# Altium footprint library opm_lib.PcbLib: 32 footprints (part 1 of 2)
Each footprint in its own frame and in the unit in brackets; x right, y up, seen from the top. Pads: shape width x height; smd on the part's side, far side on the other; paste and mask are expansions set on the pad; w line width, h text height; cw(c..) or ccw(c..) is an arc to the next point about the centre after c.
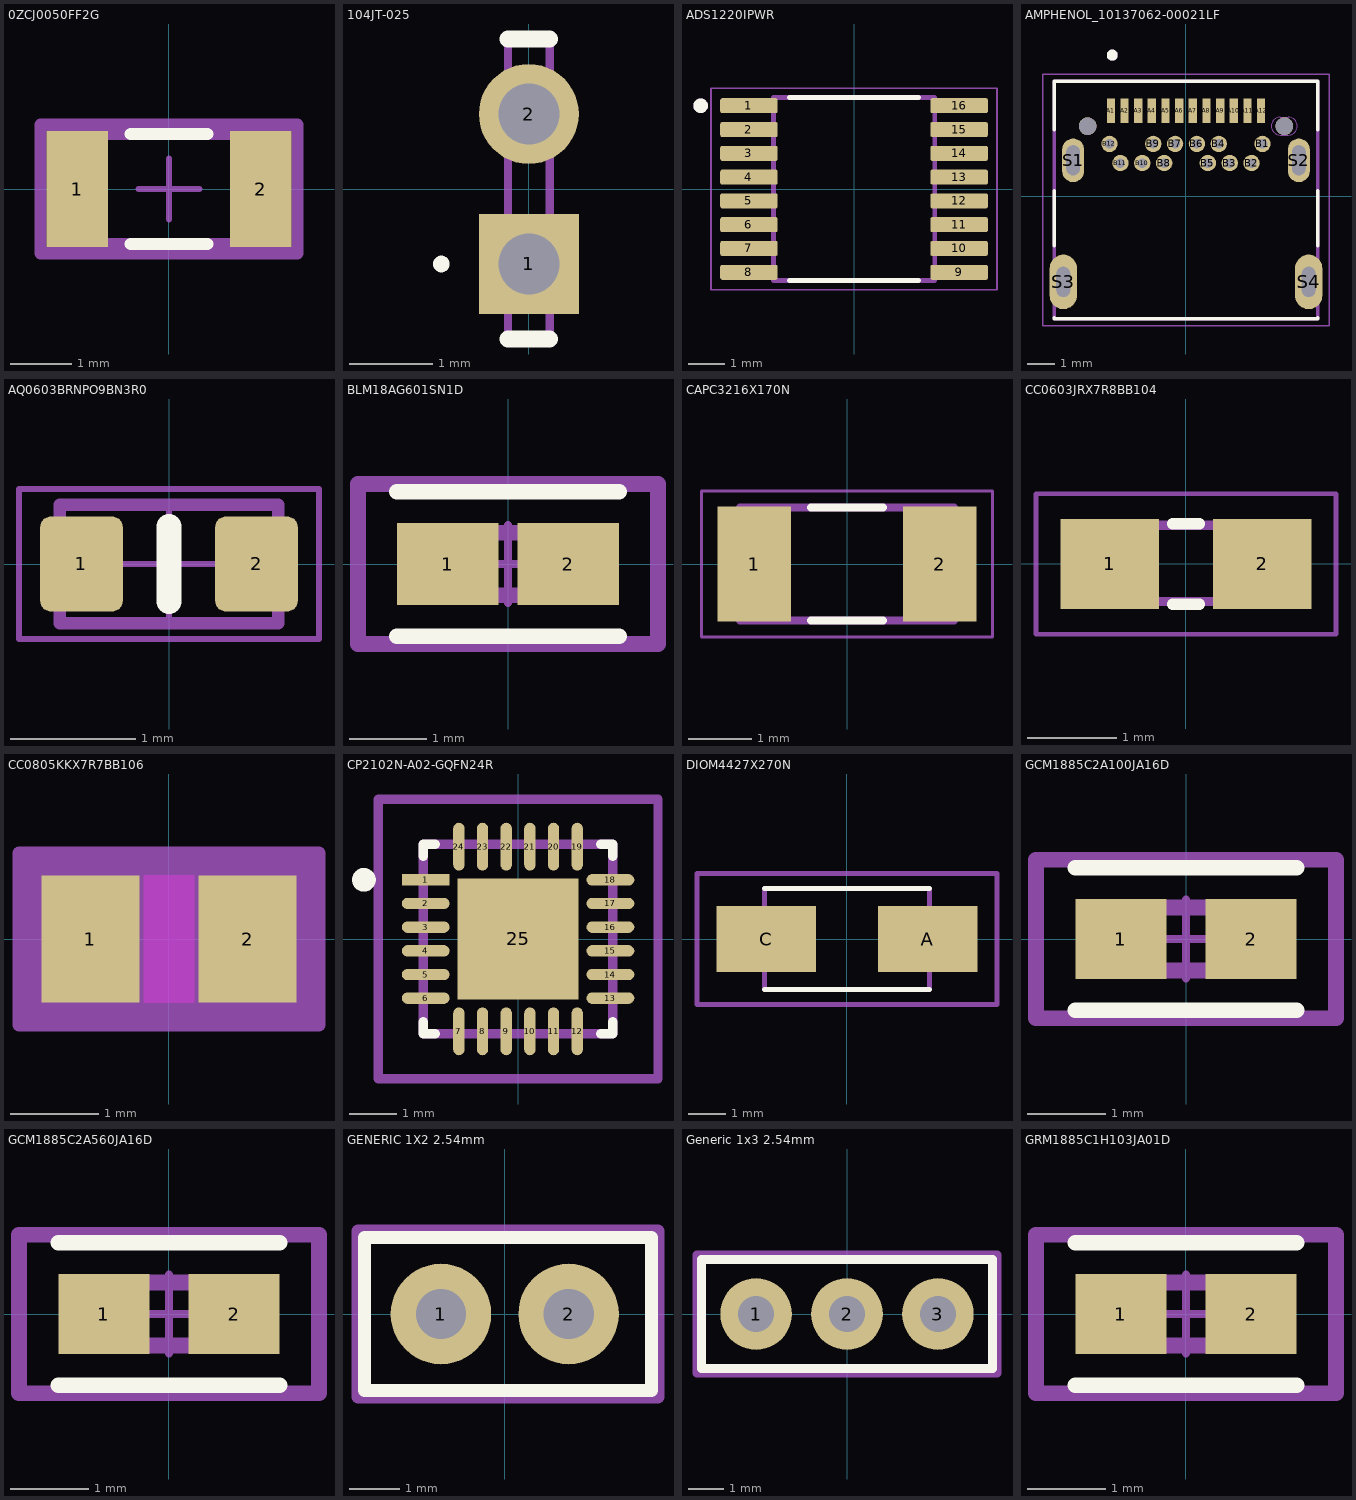
[diagram p0: the footprints below, top view; thin cyan lines are the x and y axes]

## 0ZCJ0050FF2G [mm]
pads (2):
  rect 1x1.9 smd paste+0 mask+0: 1(-1.5,0) 2(1.5,0)
Top Overlay:
  lines w0.2: -0.625,-0.9 0.625,-0.9 ; -0.625,0.9 0.625,0.9
Top 3D Body:
  lines w0.2: -1.75,-0.9 -1.75,0.9 1.75,0.9 1.75,-0.9 -1.75,-0.9
Board:
  lines w0.2: -2.1,-1.05 -2.1,1.05 2.1,1.05 2.1,-1.05 -2.1,-1.05
Top Assembly:
  lines w0.2: -2.1,-1.05 -2.1,1.05 2.1,1.05 2.1,-1.05 -2.1,-1.05
  text ".Designator" at 0,0.188 h1
Top Component Center:
  lines w0.1: -0.5,0 0.5,0 ; 0,-0.5 0,0.5
3D body "Fuse_Bel_Fuse_0ZCJ0050FF2G_eec.STEP": height 0.25, standoff 0, extent -2.1,-1.05 2.1,1.05

## 104JT-025 [mm]
pads (2):
  rect 1.2x1.2 hole 0.73: 1(0,-0.9)
  round 1.2 hole 0.73: 2(0,0.9)
Top Overlay:
  lines w0.1: -1.1,-0.9 cw(c-1.05,-0.9) -1,-0.9 cw(c-1.05,-0.9) -1.1,-0.9
  lines w0.2: -0.25,-1.8 0.25,-1.8 ; -0.25,1.8 0.25,1.8
Mechanical 15:
  lines w0.1: -0.25,-1.8 0.25,-1.8 0.25,1.8 -0.25,1.8 -0.25,-1.8

## ADS1220IPWR [mm]
pads (16):
  rrect25% 1.57x0.41 smd: 1(-2.87,2.275) 2(-2.87,1.625) 3(-2.87,0.975) 4(-2.87,0.325) 5(-2.87,-0.325) 6(-2.87,-0.975) 7(-2.87,-1.625) 8(-2.87,-2.275) 9(2.87,-2.275) 10(2.87,-1.625) 11(2.87,-0.975) 12(2.87,-0.325) 13(2.87,0.325) 14(2.87,0.975) 15(2.87,1.625) 16(2.87,2.275)
Top Overlay:
  circle w0.2: c-4.19,2.275 r0.1
  lines w0.127: -1.765,-2.5 1.765,-2.5 ; -1.765,2.5 1.765,2.5
Mechanical 13:
  circle w0.2: c-4.19,2.275 r0.1
  lines w0.127: -2.2,-2.5 -2.2,2.5 2.2,2.5 2.2,-2.5 -2.2,-2.5
Mechanical 15:
  lines w0.05: -3.905,-2.75 -3.905,2.75 3.905,2.75 3.905,-2.75 -3.905,-2.75
3D body "step_temp.STEP": height 1.2, standoff 0, extent -3.2,-2.5 3.2,2.5

## AMPHENOL_10137062-00021LF [mm]
pads (30):
  rect 0.3x0.9 smd: A1(-2.75,3.13) A2(-2.25,3.13) A3(-1.75,3.13) A4(-1.25,3.13) A5(-0.75,3.13) A6(-0.25,3.13) A7(0.25,3.13) A8(0.75,3.13) A9(1.25,3.13) A10(1.75,3.13) A11(2.25,3.13) A12(2.75,3.13)
  round 0.6 hole 0.349: B1(2.8,1.92) B2(2.4,1.22) B3(1.6,1.22) B4(1.2,1.92) B5(0.8,1.22) B6(0.4,1.92) B7(-0.4,1.92) B8(-0.8,1.22) B9(-1.2,1.92) B10(-1.6,1.22) B11(-2.4,1.22) B12(-2.8,1.92)
  oval 0.8x1.6 hole 0.5 slot 1.1 at 90 deg: S1(-4.13,1.32) S2(4.13,1.32)
  oval 1x2 hole 0.5 slot 1.1 at 90 deg: S3(-4.49,-3.13) S4(4.49,-3.13)
  round 0.65 hole 0.65 unplated: ""(-3.6,2.57) ""(3.6,2.57)
Top Overlay:
  circle w0.2: c-2.7,5.17 r0.1
  lines w0.127: -4.825,-4.45 -4.825,-4.48 4.825,-4.48 4.825,-4.45 ; -4.825,-1.81 -4.825,0.2 ; -4.825,2.44 -4.825,4.22 4.825,4.22 4.825,2.44 ; 4.825,-1.81 4.825,0.2
Mechanical 1:
  lines w0: 3.125,2.57 ccw(c3.45,2.57) 3.45,2.245 3.75,2.245 ccw(c3.75,2.57) 4.075,2.57 ccw(c3.75,2.57) 3.75,2.895 3.45,2.895 ccw(c3.45,2.57) 3.125,2.57
Mechanical 13:
  circle w0.2: c-2.7,5.17 r0.1
  lines w0.127: -4.825,-4.48 -4.825,4.22 4.825,4.22 4.825,-4.48 -4.825,-4.48
Mechanical 15:
  lines w0.05: -5.24,-4.73 5.24,-4.73 5.24,4.47 -5.24,4.47 -5.24,-4.73
3D body "step_temp.STEP": height 0, standoff 0, extent 0,-0.13 0,-0.13

## AQ0603BRNPO9BN3R0 [mm]
pads (2):
  rrect25% 0.66x0.76 smd: 1(-0.7,0) 2(0.7,0)
Top Overlay:
  lines w0.2: 0,-0.3 0,0.3
Top Courtyard:
  lines w0.05: -0.475,0 0.475,0 ; 0,-0.475 0,0.475 ; -1.2,-0.6 -1.2,0.6 1.2,0.6 1.2,-0.6 -1.2,-0.6
Top Assembly:
  lines w0.1: -0.875,-0.475 0.875,-0.475 0.875,0.475 -0.875,0.475 -0.875,-0.475
Top Designator:
  text ".Designator" at -1.27,-0.127 h0.6
3D body "CAPC1608X95N EIA 0603.STEP": height 0.95, standoff 0, extent -0.8,-0.4 0.8,0.4

## BLM18AG601SN1D [mm]
pads (2):
  rect 1.306x1.058 smd paste+0 mask+0: 1(-0.776,0) 2(0.776,0)
Top Overlay:
  lines w0.2: -1.429,-0.929 1.429,-0.929 ; -1.429,0.929 1.429,0.929
Top 3D Body:
  lines w0.2: -0.8,-0.4 0.8,-0.4 0.8,0.4 -0.8,0.4 -0.8,-0.4
Board:
  lines w0.2: -1.929,-1.029 1.929,-1.029 1.929,1.029 -1.929,1.029 -1.929,-1.029
Top Assembly:
  lines w0.2: -1.929,-1.029 1.929,-1.029 1.929,1.029 -1.929,1.029 -1.929,-1.029
  text ".Designator" at 0,0.188 h1
Top Component Center:
  lines w0.1: -0.5,0 0.5,0 ; 0,-0.5 0,0.5
3D body "FBead_Murata_BLM18EG221SN1D_eec.STEP": height 0.25, standoff 0, extent -1.929,-1.029 1.929,1.029

## CAPC3216X170N [mm]
pads (2):
  rect 1.17x1.82 smd paste+0 mask+0.102: 1(-1.471,0) 2(1.471,0)
Top Overlay:
  lines w0.127: -0.57,-0.9 0.57,-0.9 ; -0.57,0.9 0.57,0.9
Mechanical 13:
  lines w0.127: -1.7,-0.9 -1.7,0.9 1.7,0.9 1.7,-0.9 -1.7,-0.9
Mechanical 15:
  lines w0.05: -2.308,-1.158 -2.308,1.158 2.308,1.158 2.308,-1.158 -2.308,-1.158
3D body "VJ1206Y472KXEAT5Z.STEP": height 1.59, standoff -0.01, extent -1.6,-0.85 1.6,0.85

## CC0603JRX7R8BB104 [mm]
pads (2):
  rect 1.1x1 smd: 1(-0.85,0) 2(0.85,0)
Top Overlay:
  lines w0.127: -0.15,-0.45 0.15,-0.45 ; -0.15,0.45 0.15,0.45
Mechanical 13:
  region: -0.338,-0.47 -0.839,-0.47 -0.839,0.48 -0.338,0.48
  region: 0.83,-0.471 0.331,-0.471 0.331,0.48 0.83,0.48
  lines w0.102: -0.356,-0.419 0.356,-0.419 ; -0.356,0.432 0.356,0.432
Mechanical 15:
  lines w0.051: -1.673,-0.783 1.673,-0.783 1.673,0.783 -1.673,0.783 -1.673,-0.783
3D body "CC0603JRX7R8BB104.step": height 0.8, standoff 0, extent -0.8,-0.45 0.8,0.45

## CC0805KKX7R7BB106 [mil]
pads (2):
  rect 44x57 smd paste+0 mask+0: 1(-35.31,0) 2(35.31,0)
Top Layer keep-out:
  region: -11.31,-26.5 -11.31,26.5 11.31,26.5 11.31,-26.5
Top Overlay:
  text ".Designator" at -137.5,-25 h50
Keep-Out Layer:
  region: -11.31,-28.5 -11.31,28.5 11.31,28.5 11.31,-28.5
Mechanical 13:
  lines w1: -43.31,-28.5 -43.31,28.5 ; -43.31,-28.5 43.31,-28.5 ; -43.31,-28.5 -13.31,-28.5 -13.31,28.5 -43.31,28.5 ; -43.31,-28.5 -43.31,28.5 ; -43.31,28.5 43.31,28.5 ; 43.31,-28.5 43.31,28.5 ; 43.31,-28.5 43.31,28.5 ; 43.31,-28.5 13.31,-28.5 13.31,28.5 43.31,28.5
  text ".Designator" at -137.5,-25 h50
Mechanical 15:
  region: 67.31,-38.5 -67.31,-38.5 -67.31,38.5 67.31,38.5
  lines w6: -67.31,-38.5 67.31,-38.5 67.31,38.5 -67.31,38.5 -67.31,-38.5
3D body "CAP_CC0805_YAG.step": height 57.01, standoff 0, extent -43.31,-28.5 43.31,28.5

## CP2102N-A02-GQFN24R [mm]
pads (25):
  rect 1.01x0.239 smd paste+0 mask+0: 1(-1.951,1.25)
  rrect100% 1.01x0.239 smd paste+0 mask+0: 2(-1.951,0.75) 3(-1.951,0.25) 4(-1.951,-0.25) 5(-1.951,-0.75) 6(-1.951,-1.25) 13(1.951,-1.25) 14(1.951,-0.75) 15(1.951,-0.25) 16(1.951,0.25) 17(1.951,0.75) 18(1.951,1.25)
  rrect100% 0.239x1.01 smd paste+0 mask+0: 7(-1.25,-1.951) 8(-0.75,-1.951) 9(-0.25,-1.951) 10(0.25,-1.951) 11(0.75,-1.951) 12(1.25,-1.951) 19(1.25,1.951) 20(0.75,1.951) 21(0.25,1.951) 22(-0.25,1.951) 23(-0.75,1.951) 24(-1.25,1.951)
  rect 2.55x2.55 smd paste-1000 mask+0: 25(0,0)
Top Overlay:
  circle w0.25: c-3.256,1.25 r0.125
  lines w0.2: -2,-1.75 -2,-2 -1.75,-2 ; -2,1.75 -2,2 -1.75,2 ; 1.75,-2 2,-2 2,-1.75 ; 1.75,2 2,2 2,1.75
Top Paste:
  rectangle: -0.806,-0.806 0.806,0.806
Top 3D Body:
  lines w0.2: -2,-2 2,-2 2,2 -2,2 -2,-2
Board:
  lines w0.2: -2.956,-2.956 2.956,-2.956 2.956,2.956 -2.956,2.956 -2.956,-2.956
Top Assembly:
  lines w0.2: -2.956,-2.956 2.956,-2.956 2.956,2.956 -2.956,2.956 -2.956,-2.956
  text ".Designator" at 0,0.188 h1
Top Component Center:
  lines w0.1: -0.5,0 0.5,0 ; 0,-0.5 0,0.5
3D body "IC_Silicon_Labs_CP2102N-A02-GQFN24R_eec.STEP": height 0.25, standoff 0, extent -2.956,-2.956 2.956,2.956

## DIOM4427X270N [mm]
pads (2):
  rect 2.65x1.75 smd: A(2.15,0) C(-2.15,0)
Top Overlay:
  lines w0.127: -2.2,-1.35 2.2,-1.35 ; -2.2,1.35 2.2,1.35
Mechanical 13:
  lines w0.127: -2.2,-1.35 -2.2,1.35 ; 2.2,-1.35 2.2,1.35
Mechanical 15:
  lines w0.127: -4,-1.75 -4,1.75 4,1.75 4,-1.75 -4,-1.75
3D body "step_temp.STEP": height 1.43, standoff 0, extent -1.8,-0.9 1.8,0.9

## GCM1885C2A100JA16D [mm]
pads (2):
  rect 1.159x1.012 smd paste+0 mask+0: 1(-0.827,0) 2(0.827,0)
Top Overlay:
  lines w0.2: -1.406,-0.906 1.406,-0.906 ; -1.406,0.906 1.406,0.906
Top 3D Body:
  lines w0.2: -0.8,-0.4 -0.8,0.4 0.8,0.4 0.8,-0.4 -0.8,-0.4
Board:
  lines w0.2: -1.906,-1.006 -1.906,1.006 1.906,1.006 1.906,-1.006 -1.906,-1.006
Top Assembly:
  lines w0.2: -1.906,-1.006 -1.906,1.006 1.906,1.006 1.906,-1.006 -1.906,-1.006
  text ".Designator" at 0,0.188 h1
Top Component Center:
  lines w0.1: -0.5,0 0.5,0 ; 0,-0.5 0,0.5
3D body "Cap_Murata_GCM1885C2A5R3BA16J_eec.STEP": height 0.25, standoff 0, extent -1.906,-1.006 1.906,1.006

## GCM1885C2A560JA16D [mm]
pads (2):
  rect 1.159x1.012 smd paste+0 mask+0: 1(-0.827,0) 2(0.827,0)
Top Overlay:
  lines w0.2: -1.406,-0.906 1.406,-0.906 ; -1.406,0.906 1.406,0.906
Top 3D Body:
  lines w0.2: -0.8,-0.4 -0.8,0.4 0.8,0.4 0.8,-0.4 -0.8,-0.4
Board:
  lines w0.2: -1.906,-1.006 -1.906,1.006 1.906,1.006 1.906,-1.006 -1.906,-1.006
Top Assembly:
  lines w0.2: -1.906,-1.006 -1.906,1.006 1.906,1.006 1.906,-1.006 -1.906,-1.006
  text ".Designator" at 0,0.188 h1
Top Component Center:
  lines w0.1: -0.5,0 0.5,0 ; 0,-0.5 0,0.5
3D body "Cap_Murata_GCM1885C2A5R3BA16J_eec.STEP": height 0.25, standoff 0, extent -1.906,-1.006 1.906,1.006

## GENERIC 1X2 2.54mm [mm]
pads (2):
  round 2 hole 1: 1(-1.27,0) 2(1.27,0)
Top Overlay:
  lines w0.254: -2.794,-1.524 2.921,-1.524 2.921,1.524 -2.794,1.524 -2.794,-1.524
Top Assembly:
  lines w0.254: -2.921,-1.651 -2.921,1.651 3.048,1.651 3.048,-1.651 -2.921,-1.651

## Generic 1x3 2.54mm [mm]
pads (3):
  round 2 hole 1: 1(-2.54,0) 2(0,0) 3(2.54,0)
Top Overlay:
  lines w0.254: -4.064,-1.524 -4.064,1.524 4.064,1.524 4.064,-1.524 -4.064,-1.524
Top Assembly:
  lines w0.254: -4.191,-1.651 4.191,-1.651 4.191,1.651 -4.191,1.651 -4.191,-1.651

## GRM1885C1H103JA01D [mm]
pads (2):
  rect 1.159x1.012 smd paste+0 mask+0: 1(-0.827,0) 2(0.827,0)
Top Overlay:
  lines w0.2: -1.406,-0.906 1.406,-0.906 ; -1.406,0.906 1.406,0.906
Top 3D Body:
  lines w0.2: -0.8,-0.4 0.8,-0.4 0.8,0.4 -0.8,0.4 -0.8,-0.4
Board:
  lines w0.2: -1.906,-1.006 1.906,-1.006 1.906,1.006 -1.906,1.006 -1.906,-1.006
Top Assembly:
  lines w0.2: -1.906,-1.006 1.906,-1.006 1.906,1.006 -1.906,1.006 -1.906,-1.006
  text ".Designator" at 0,0.188 h1
Top Component Center:
  lines w0.1: -0.5,0 0.5,0 ; 0,-0.5 0,0.5
3D body "Cap_Murata_GRM188R61E225KA12D_eec.STEP": height 0.25, standoff 0, extent -1.906,-1.006 1.906,1.006